# Altium footprint library Shields.PcbLib: 4 footprints
Each footprint in its own frame and in the unit in brackets; x right, y up, seen from the top. Pads: shape width x height; smd on the part's side, far side on the other; paste and mask are expansions set on the pad; w line width, h text height; cw(c..) or ccw(c..) is an arc to the next point about the centre after c.
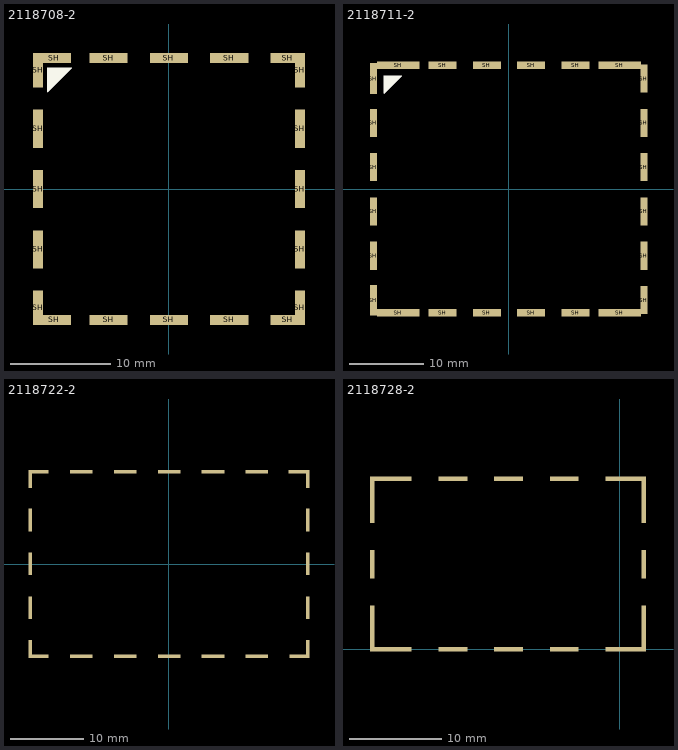
[diagram p0: the footprints below, top view; thin cyan lines are the x and y axes]

## 2118708-2 [mm] "1 PC STD SHIELD, CRS-26.21X26.21"
pads (20):
  rect 1x3.41 smd: SH(-13.005,-11.81) SH(-13.005,11.8) SH(13.005,-11.81) SH(13.005,11.8)
  rect 1x3.8 smd: SH(-13.005,-6.005) SH(-13.005,-0.005) SH(-13.005,5.995) SH(13.005,-6.005) SH(13.005,-0.005) SH(13.005,5.995)
  rect 3.41x1 smd: SH(-11.42,-13.005) SH(-11.42,13.005) SH(11.8,-13.005) SH(11.8,13.005)
  rect 3.8x1 smd: SH(-6.005,-13.005) SH(-6.005,13.005) SH(-0.005,-13.005) SH(-0.005,13.005) SH(5.995,-13.005) SH(5.995,13.005)
Top Overlay:
  region: -12.04,9.652 -9.652,12.04 -12.04,12.04
  lines w0.1: -12.04,9.652 -9.652,12.04 -12.04,12.04 -12.04,9.652
3D body "c-2118708-2-a-3d.stp": height 5.09, standoff 0.01, extent -13.11,-13.11 13.1,13.1

## 2118711-2 [mm] "1 PC STD SHIELD, CRS-36.83X33.68"
pads (24):
  rect 1x4.14 smd: SH(-18.315,-15.041)
  rect 1x3.8 smd: SH(-18.315,-9.041) SH(-18.315,-3.041) SH(-18.315,2.959) SH(-18.315,8.959) SH(18.315,-15.041) SH(18.315,-9.041) SH(18.315,-3.041) SH(18.315,2.959) SH(18.315,8.959) SH(18.315,14.959)
  rect 1x4.19 smd: SH(-18.315,14.959)
  rect 5.72x1 smd: SH(-14.956,-16.74) SH(-14.956,16.74) SH(15.044,-16.74) SH(15.044,16.74)
  rect 3.8x1 smd: SH(-8.956,-16.74) SH(-8.956,16.74) SH(-2.956,-16.74) SH(-2.956,16.74) SH(3.044,16.74) SH(3.044,-16.74) SH(9.044,-16.74) SH(9.044,16.74)
Top Overlay:
  region: -16.866,12.954 -14.478,15.342 -16.866,15.342
  lines w0.1: -16.866,12.954 -16.866,15.342 -14.478,15.342 -16.866,12.954
3D body "c-2118711-2-a-3d.stp": height 5.09, standoff 0.01, extent -18.388,-16.867 18.442,16.813

## 2118722-2 [mm]
pads (24):
  rect 0.5x2.5 smd: SH(-18.95,-11.615) SH(-18.95,11.615) SH(18.95,-11.615) SH(18.95,11.615)
  rect 0.5x3.1 smd: SH(-18.95,-5.985) SH(-18.95,0.015) SH(-18.95,6.015) SH(18.95,-5.985) SH(18.95,0.015) SH(18.95,6.015)
  rect 2.5x0.5 smd: SH(-17.687,-12.615) SH(-17.687,12.615) SH(17.713,-12.615)
  rect 3.1x0.5 smd: SH(-11.987,-12.615) SH(-11.987,12.615) SH(-5.987,-12.615) SH(-5.987,12.615) SH(0.013,-12.615) SH(0.013,12.615) SH(6.013,12.615) SH(6.013,-12.615) SH(12.013,-12.615) SH(12.013,12.615)
  rect 2.7x0.5 smd: SH(17.713,12.615)
3D body "c-2118722-2-a-3d.stp": height 6.01, standoff 0.01, extent -19.049,-12.691 19.051,12.709

## 2118728-2 [mm]
pads (24):
  rect 0.5x3.1 smd: SH(-26.687,1.3) SH(-26.687,3.169) SH(-26.687,9.169) SH(-26.687,15.169) SH(-26.687,17.1) SH(2.573,1.645) SH(2.573,3.169) SH(2.573,9.169) SH(2.573,15.169) SH(2.573,17.1)
  rect 3.1x0.5 smd: SH(-25.27,0) SH(-25.016,18.4) SH(-24,0) SH(-24,18.4) SH(-18,0) SH(-18,18.4) SH(-12,0) SH(-12,18.4) SH(-6,18.4) SH(-6,0) SH(0,0) SH(0,18.4) SH(0.889,18.4) SH(1.273,0)
3D body "c-2118728-2-a-3d.stp": height 7.01, standoff 0.01, extent -26.69,-0.06 2.67,18.44